# Altium footprint library Small Outline with J Leads.PcbLib: 43 footprints (part 1 of 3)
Each footprint in its own frame and in the unit in brackets; x right, y up, seen from the top. Pads: shape width x height; smd on the part's side, far side on the other; paste and mask are expansions set on the pad; w line width, h text height; cw(c..) or ccw(c..) is an arc to the next point about the centre after c.
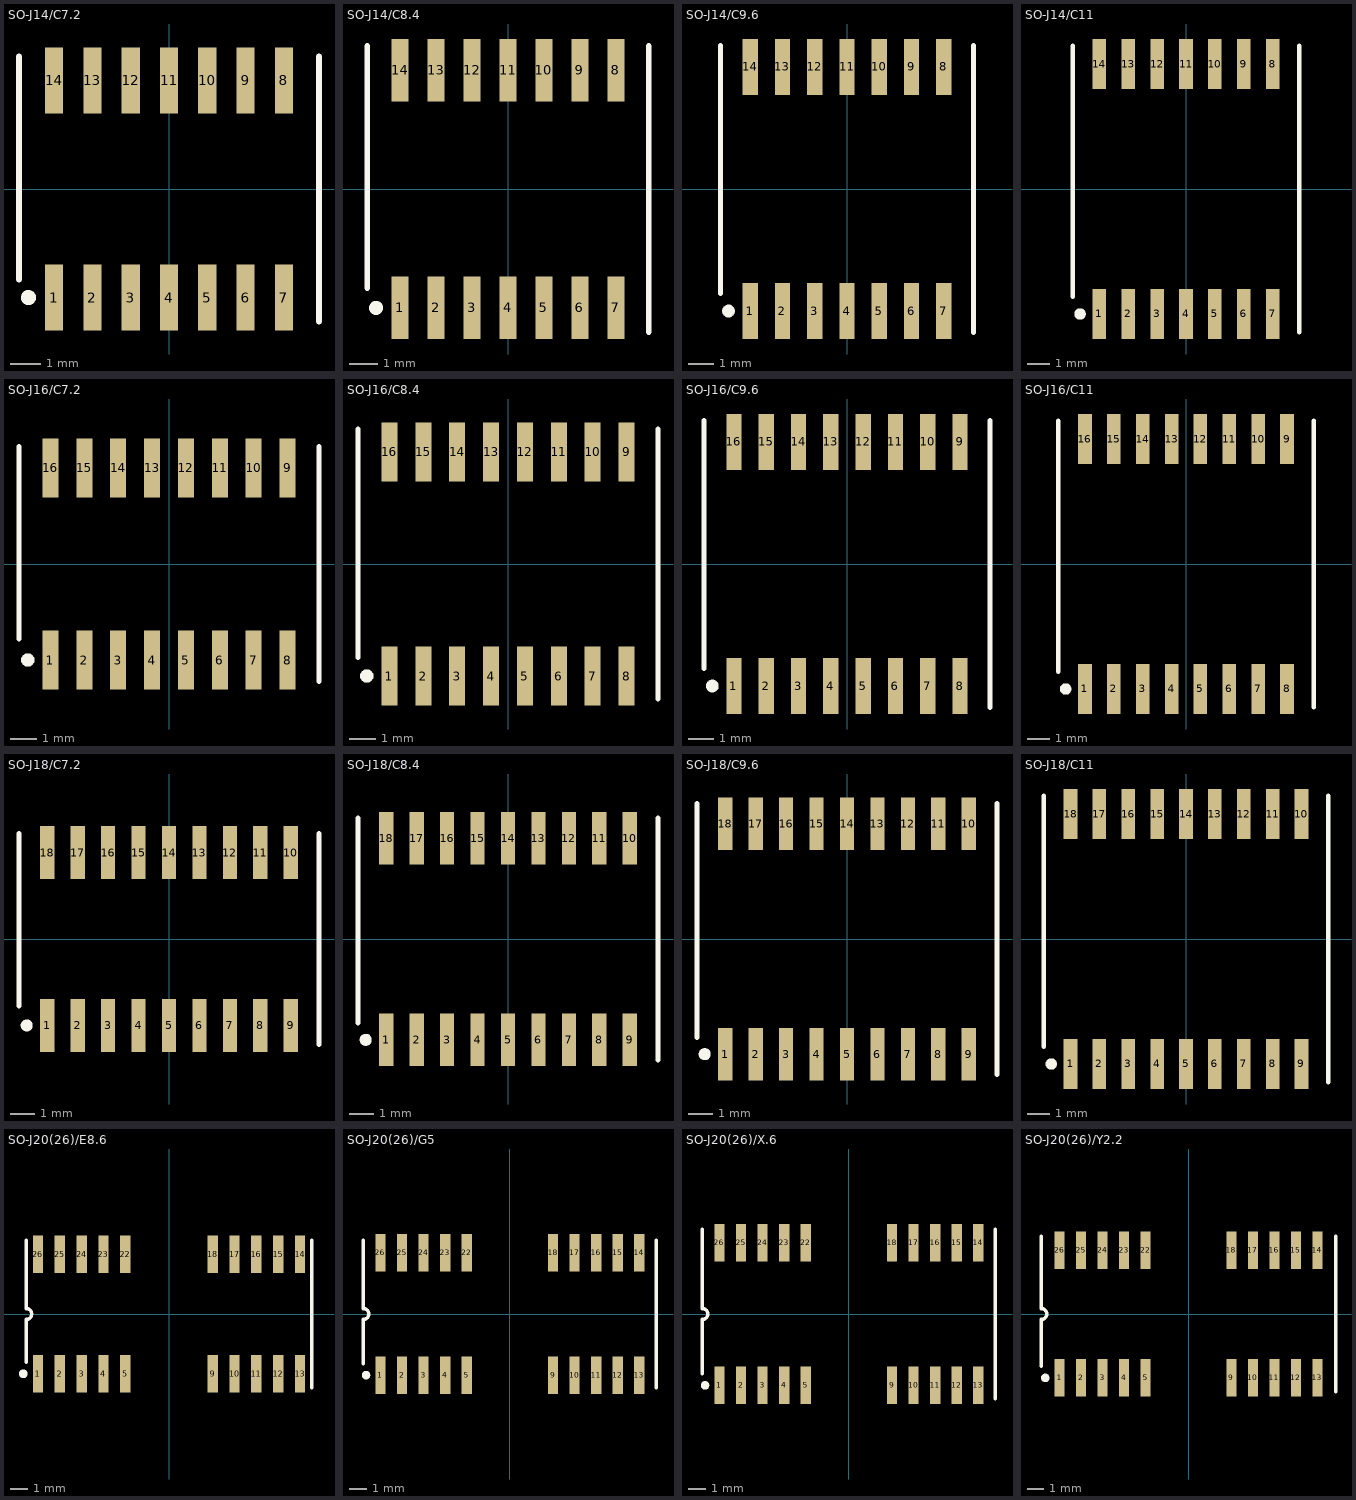
[diagram p0: the footprints below, top view; thin cyan lines are the x and y axes]

## SO-J14/C7.2 [mm] "SOJ; 14 Leads; Body Width 7.62 mm; Pitch 1.27 mm"
height 3.75
pads (14):
  rect 0.6x2.2 smd: 1(-3.81,-3.6) 2(-2.54,-3.6) 3(-1.27,-3.6) 4(0,-3.6) 5(1.27,-3.6) 6(2.54,-3.6) 7(3.81,-3.6) 8(3.81,3.6) 9(2.54,3.6) 10(1.27,3.6) 11(0,3.6) 12(-1.27,3.6) 13(-2.54,3.6) 14(-3.81,3.6)
Top Overlay:
  circle w0.25: c-4.66,-3.6 r0.125
  lines w0.2: -4.975,-3 -4.975,4.4 ; 4.975,-4.4 4.975,4.4

## SO-J14/C8.4 [mm] "SOJ; 14 Leads; Body Width 8.9 mm; Pitch 1.27 mm"
height 3.75
pads (14):
  rect 0.6x2.2 smd: 1(-3.81,-4.2) 2(-2.54,-4.2) 3(-1.27,-4.2) 4(0,-4.2) 5(1.27,-4.2) 6(2.54,-4.2) 7(3.81,-4.2) 8(3.81,4.2) 9(2.54,4.2) 10(1.27,4.2) 11(0,4.2) 12(-1.27,4.2) 13(-2.54,4.2) 14(-3.81,4.2)
Top Overlay:
  circle w0.25: c-4.66,-4.2 r0.125
  lines w0.2: -4.975,-3.5 -4.975,5.05 ; 4.975,-5.05 4.975,5.05

## SO-J14/C9.6 [mm] "SOJ; 14 Leads; Body Width 10.16 mm; Pitch 1.27 mm"
height 3.75
pads (14):
  rect 0.6x2.2 smd: 1(-3.81,-4.8) 2(-2.54,-4.8) 3(-1.27,-4.8) 4(0,-4.8) 5(1.27,-4.8) 6(2.54,-4.8) 7(3.81,-4.8) 8(3.81,4.8) 9(2.54,4.8) 10(1.27,4.8) 11(0,4.8) 12(-1.27,4.8) 13(-2.54,4.8) 14(-3.81,4.8)
Top Overlay:
  circle w0.25: c-4.66,-4.8 r0.125
  lines w0.2: -4.975,-4.1 -4.975,5.65 ; 4.975,-5.65 4.975,5.65

## SO-J14/C11 [mm] "SOJ; 14 Leads; Body Width 11.4 mm; Pitch 1.27 mm"
height 3.75
pads (14):
  rect 0.6x2.2 smd: 1(-3.81,-5.5) 2(-2.54,-5.5) 3(-1.27,-5.5) 4(0,-5.5) 5(1.27,-5.5) 6(2.54,-5.5) 7(3.81,-5.5) 8(3.81,5.5) 9(2.54,5.5) 10(1.27,5.5) 11(0,5.5) 12(-1.27,5.5) 13(-2.54,5.5) 14(-3.81,5.5)
Top Overlay:
  circle w0.25: c-4.66,-5.5 r0.125
  lines w0.2: -4.975,-4.75 -4.975,6.3 ; 4.975,-6.3 4.975,6.3

## SO-J16/C7.2 [mm] "SOJ; 16 Leads; Body Width 7.62 mm; Pitch 1.27 mm"
height 3.75
pads (16):
  rect 0.6x2.2 smd: 1(-4.445,-3.6) 2(-3.175,-3.6) 3(-1.905,-3.6) 4(-0.635,-3.6) 5(0.635,-3.6) 6(1.905,-3.6) 7(3.175,-3.6) 8(4.445,-3.6) 9(4.445,3.6) 10(3.175,3.6) 11(1.905,3.6) 12(0.635,3.6) 13(-0.635,3.6) 14(-1.905,3.6) 15(-3.175,3.6) 16(-4.445,3.6)
Top Overlay:
  circle w0.25: c-5.295,-3.6 r0.125
  lines w0.2: -5.625,-2.8 -5.625,4.4 ; 5.625,-4.4 5.625,4.4

## SO-J16/C8.4 [mm] "SOJ; 16 Leads; Body Width 8.9 mm; Pitch 1.27 mm"
height 3.75
pads (16):
  rect 0.6x2.2 smd: 1(-4.445,-4.2) 2(-3.175,-4.2) 3(-1.905,-4.2) 4(-0.635,-4.2) 5(0.635,-4.2) 6(1.905,-4.2) 7(3.175,-4.2) 8(4.445,-4.2) 9(4.445,4.2) 10(3.175,4.2) 11(1.905,4.2) 12(0.635,4.2) 13(-0.635,4.2) 14(-1.905,4.2) 15(-3.175,4.2) 16(-4.445,4.2)
Top Overlay:
  circle w0.25: c-5.295,-4.2 r0.125
  lines w0.2: -5.625,-3.5 -5.625,5.05 ; 5.625,-5.05 5.625,5.05

## SO-J16/C9.6 [mm] "SOJ; 16 Leads; Body Width 10.16 mm; Pitch 1.27 mm"
height 3.75
pads (16):
  rect 0.6x2.2 smd: 1(-4.445,-4.8) 2(-3.175,-4.8) 3(-1.905,-4.8) 4(-0.635,-4.8) 5(0.635,-4.8) 6(1.905,-4.8) 7(3.175,-4.8) 8(4.445,-4.8) 9(4.445,4.8) 10(3.175,4.8) 11(1.905,4.8) 12(0.635,4.8) 13(-0.635,4.8) 14(-1.905,4.8) 15(-3.175,4.8) 16(-4.445,4.8)
Top Overlay:
  circle w0.25: c-5.295,-4.8 r0.125
  lines w0.2: -5.625,-4.1 -5.625,5.65 ; 5.625,-5.65 5.625,5.65

## SO-J16/C11 [mm] "SOJ; 16 Leads; Body Width 11.4 mm; Pitch 1.27 mm"
height 3.75
pads (16):
  rect 0.6x2.2 smd: 1(-4.445,-5.5) 2(-3.175,-5.5) 3(-1.905,-5.5) 4(-0.635,-5.5) 5(0.635,-5.5) 6(1.905,-5.5) 7(3.175,-5.5) 8(4.445,-5.5) 9(4.445,5.5) 10(3.175,5.5) 11(1.905,5.5) 12(0.635,5.5) 13(-0.635,5.5) 14(-1.905,5.5) 15(-3.175,5.5) 16(-4.445,5.5)
Top Overlay:
  circle w0.25: c-5.295,-5.5 r0.125
  lines w0.2: -5.625,-4.75 -5.625,6.3 ; 5.625,-6.3 5.625,6.3

## SO-J18/C7.2 [mm] "SOJ; 18 Leads; Body Width 7.62 mm; Pitch 1.27 mm"
height 3.75
pads (18):
  rect 0.6x2.2 smd: 1(-5.08,-3.6) 2(-3.81,-3.6) 3(-2.54,-3.6) 4(-1.27,-3.6) 5(0,-3.6) 6(1.27,-3.6) 7(2.54,-3.6) 8(3.81,-3.6) 9(5.08,-3.6) 10(5.08,3.6) 11(3.81,3.6) 12(2.54,3.6) 13(1.27,3.6) 14(0,3.6) 15(-1.27,3.604) 16(-2.54,3.6) 17(-3.81,3.6) 18(-5.08,3.6)
Top Overlay:
  circle w0.25: c-5.93,-3.6 r0.125
  lines w0.2: -6.25,-2.8 -6.25,4.4 ; 6.25,-4.4 6.25,4.4

## SO-J18/C8.4 [mm] "SOJ; 18 Leads; Body Width 8.9 mm; Pitch 1.27 mm"
height 3.75
pads (18):
  rect 0.6x2.2 smd: 1(-5.08,-4.2) 2(-3.81,-4.2) 3(-2.54,-4.2) 4(-1.27,-4.2) 5(0,-4.2) 6(1.27,-4.2) 7(2.54,-4.2) 8(3.81,-4.2) 9(5.08,-4.2) 10(5.08,4.2) 11(3.81,4.2) 12(2.54,4.2) 13(1.27,4.2) 14(0,4.2) 15(-1.27,4.2) 16(-2.54,4.2) 17(-3.81,4.2) 18(-5.08,4.2)
Top Overlay:
  circle w0.25: c-5.93,-4.2 r0.125
  lines w0.2: -6.25,-3.5 -6.25,5.05 ; 6.25,-5.05 6.25,5.05

## SO-J18/C9.6 [mm] "SOJ; 18 Leads; Body Width 10.16 mm; Pitch 1.27 mm"
height 3.75
pads (18):
  rect 0.6x2.2 smd: 1(-5.08,-4.8) 2(-3.81,-4.8) 3(-2.54,-4.8) 4(-1.27,-4.8) 5(0,-4.8) 6(1.27,-4.8) 7(2.54,-4.8) 8(3.81,-4.8) 9(5.08,-4.8) 10(5.08,4.8) 11(3.81,4.8) 12(2.54,4.8) 13(1.27,4.8) 14(0,4.8) 15(-1.27,4.8) 16(-2.54,4.8) 17(-3.81,4.8) 18(-5.08,4.8)
Top Overlay:
  circle w0.25: c-5.93,-4.8 r0.125
  lines w0.2: -6.25,-4.1 -6.25,5.65 ; 6.25,-5.65 6.25,5.65

## SO-J18/C11 [mm] "SOJ; 18 Leads; Body Width 11.4 mm; Pitch 1.27 mm"
height 3.75
pads (18):
  rect 0.6x2.2 smd: 1(-5.08,-5.5) 2(-3.81,-5.5) 3(-2.54,-5.5) 4(-1.27,-5.5) 5(0,-5.5) 6(1.27,-5.5) 7(2.54,-5.5) 8(3.81,-5.5) 9(5.08,-5.5) 10(5.08,5.5) 11(3.81,5.5) 12(2.54,5.5) 13(1.27,5.5) 14(0,5.5) 15(-1.27,5.5) 16(-2.54,5.5) 17(-3.81,5.5) 18(-5.08,5.5)
Top Overlay:
  circle w0.25: c-5.93,-5.5 r0.125
  lines w0.2: -6.25,-4.75 -6.25,6.3 ; 6.25,-6.3 6.25,6.3

## SO-J20(26)/E8.6 [mm] "SOJ; 20 Leads; Body Width 7.5 mm; Pitch 1.27 mm"
height 1.83
pads (20):
  rect 0.6x2.2 smd: 1(-7.62,-3.475) 2(-6.35,-3.475) 3(-5.08,-3.475) 4(-3.81,-3.475) 5(-2.54,-3.475) 9(2.54,-3.475) 10(3.81,-3.475) 11(5.08,-3.475) 12(6.35,-3.475) 13(7.62,-3.475) 14(7.62,3.475) 15(6.35,3.475) 16(5.08,3.475) 17(3.81,3.475) 18(2.54,3.475) 22(-2.54,3.475) 23(-3.81,3.475) 24(-5.08,3.475) 25(-6.35,3.475) 26(-7.62,3.475)
Top Overlay:
  circle w0.25: c-8.47,-3.475 r0.125
  lines w0.2: -8.3,-2.8 -8.3,-0.318 ccw(c-8.3,0) -8.3,0.318 -8.3,4.3 ; 8.3,-4.3 8.3,4.3

## SO-J20(26)/G5 [mm] "SOJ; 20 Leads; Body Width 7.62 mm; Pitch 1.27 mm"
height 3.76
pads (20):
  rect 0.6x2.2 smd: 1(-7.62,-3.6) 2(-6.35,-3.6) 3(-5.08,-3.6) 4(-3.81,-3.6) 5(-2.54,-3.6) 9(2.54,-3.6) 10(3.81,-3.6) 11(5.08,-3.6) 12(6.35,-3.6) 13(7.62,-3.6) 14(7.62,3.6) 15(6.35,3.6) 16(5.08,3.6) 17(3.81,3.6) 18(2.54,3.6) 22(-2.54,3.6) 23(-3.81,3.6) 24(-5.08,3.6) 25(-6.35,3.6) 26(-7.62,3.6)
Top Overlay:
  circle w0.25: c-8.47,-3.6 r0.125
  lines w0.2: -8.625,-2.925 -8.625,-0.317 ccw(c-8.625,0) -8.625,0.318 -8.625,4.35 ; 8.625,-4.35 8.625,4.35

## SO-J20(26)/X.6 [mm] "SOJ; 20 Leads; Body Width 8.9 mm; Pitch 1.27 mm"
height 3.76
pads (20):
  rect 0.6x2.2 smd: 1(-7.62,-4.2) 2(-6.35,-4.2) 3(-5.08,-4.2) 4(-3.81,-4.2) 5(-2.54,-4.2) 9(2.54,-4.2) 10(3.81,-4.2) 11(5.08,-4.2) 12(6.35,-4.2) 13(7.62,-4.2) 14(7.62,4.2) 15(6.35,4.2) 16(5.08,4.2) 17(3.81,4.2) 18(2.54,4.2) 22(-2.54,4.2) 23(-3.81,4.2) 24(-5.08,4.2) 25(-6.35,4.2) 26(-7.62,4.2)
Top Overlay:
  circle w0.25: c-8.47,-4.2 r0.125
  lines w0.2: -8.625,-3.525 -8.625,-0.318 ccw(c-8.625,0) -8.625,0.318 -8.625,5 ; 8.625,-5 8.625,5

## SO-J20(26)/Y2.2 [mm] "SOJ; 20 Leads; Body Width 8.4 mm; Pitch 1.27 mm"
height 3.59
pads (20):
  rect 0.6x2.2 smd: 1(-7.62,-3.775) 2(-6.35,-3.775) 3(-5.08,-3.775) 4(-3.81,-3.775) 5(-2.54,-3.775) 9(2.54,-3.775) 10(3.81,-3.775) 11(5.08,-3.775) 12(6.35,-3.775) 13(7.62,-3.775) 14(7.62,3.775) 15(6.35,3.775) 16(5.08,3.775) 17(3.81,3.775) 18(2.54,3.775) 22(-2.54,3.775) 23(-3.81,3.775) 24(-5.08,3.775) 25(-6.35,3.775) 26(-7.62,3.775)
Top Overlay:
  circle w0.25: c-8.47,-3.775 r0.125
  lines w0.2: -8.7,-3.1 -8.7,-0.318 ccw(c-8.7,0) -8.7,0.318 -8.7,4.6 ; 8.7,-4.6 8.7,4.6